# Altium footprint library TerminalBlock_WAGO.PcbLib: 170 footprints (part 11 of 11)
Each footprint in its own frame and in the unit in brackets; x right, y up, seen from the top. Pads: shape width x height; smd on the part's side, far side on the other; paste and mask are expansions set on the pad; w line width, h text height; cw(c..) or ccw(c..) is an arc to the next point about the centre after c.
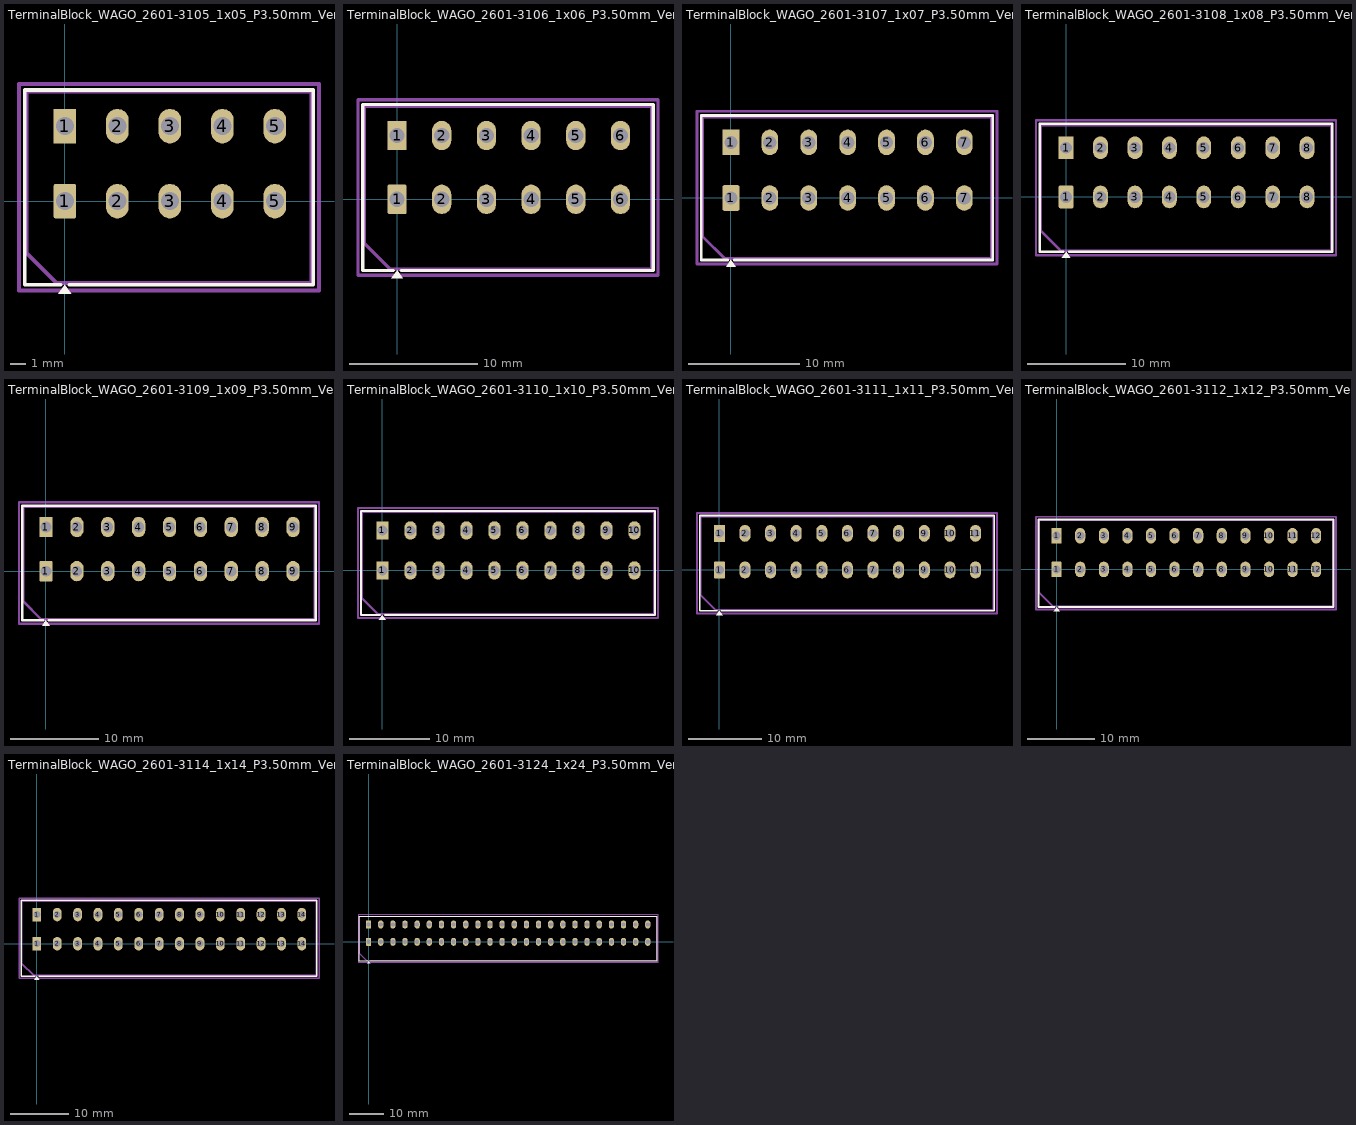
[diagram p10: the footprints below, top view; thin cyan lines are the x and y axes]

## TerminalBlock_WAGO_2601-3105_1x05_P3.50mm_Vertical [mm]
pads (10):
  rrect17% 1.5x2.3 hole 1.2: 1(0,0)
  rect 1.5x2.3 hole 1.2: 1(0,5)
  rrect100% 1.5x2.3 hole 1.2: 2(3.5,0) 2(3.5,5) 3(7,0) 3(7,5) 4(10.5,0) 4(10.5,5) 5(14,0) 5(14,5)
F.SilkS:
  region: 0.44,-6.18 -0.44,-6.18 0,-5.57
  lines w0.254: -0.3,-5.57 -2.68,-5.57 -2.68,7.42 16.56,7.42 16.56,-5.57 0.3,-5.57
F.Fab:
  lines w0.254: -2.56,-3.45 -2.56,7.3 16.44,7.3 16.44,-5.45 -0.56,-5.45 -2.56,-3.45
  text "'.Designator'" at 2.893,0.085 h1
F.CrtYd:
  lines w0.254: -3.06,-5.95 -3.06,7.8 16.94,7.8 16.94,-5.95 -3.06,-5.95

## TerminalBlock_WAGO_2601-3106_1x06_P3.50mm_Vertical [mm]
pads (12):
  rrect17% 1.5x2.3 hole 1.2: 1(0,0)
  rect 1.5x2.3 hole 1.2: 1(0,5)
  rrect100% 1.5x2.3 hole 1.2: 2(3.5,0) 2(3.5,5) 3(7,0) 3(7,5) 4(10.5,0) 4(10.5,5) 5(14,0) 5(14,5) 6(17.5,0) 6(17.5,5)
F.SilkS:
  region: 0.44,-6.18 -0.44,-6.18 0,-5.57
  lines w0.254: -0.3,-5.57 -2.68,-5.57 -2.68,7.42 20.06,7.42 20.06,-5.57 0.3,-5.57
F.Fab:
  lines w0.254: -2.56,-3.45 -2.56,7.3 19.94,7.3 19.94,-5.45 -0.56,-5.45 -2.56,-3.45
  text "'.Designator'" at 4.643,0.085 h1
F.CrtYd:
  lines w0.254: -3.06,-5.95 -3.06,7.8 20.44,7.8 20.44,-5.95 -3.06,-5.95

## TerminalBlock_WAGO_2601-3107_1x07_P3.50mm_Vertical [mm]
pads (14):
  rrect17% 1.5x2.3 hole 1.2: 1(0,0)
  rect 1.5x2.3 hole 1.2: 1(0,5)
  rrect100% 1.5x2.3 hole 1.2: 2(3.5,0) 2(3.5,5) 3(7,0) 3(7,5) 4(10.5,0) 4(10.5,5) 5(14,0) 5(14,5) 6(17.5,0) 6(17.5,5) 7(21,0) 7(21,5)
F.SilkS:
  region: 0.44,-6.18 -0.44,-6.18 0,-5.57
  lines w0.254: -0.3,-5.57 -2.68,-5.57 -2.68,7.42 23.56,7.42 23.56,-5.57 0.3,-5.57
F.Fab:
  lines w0.254: -2.56,-3.45 -2.56,7.3 23.44,7.3 23.44,-5.45 -0.56,-5.45 -2.56,-3.45
  text "'.Designator'" at 6.393,0.085 h1
F.CrtYd:
  lines w0.254: -3.06,-5.95 -3.06,7.8 23.94,7.8 23.94,-5.95 -3.06,-5.95

## TerminalBlock_WAGO_2601-3108_1x08_P3.50mm_Vertical [mm]
pads (16):
  rrect17% 1.5x2.3 hole 1.2: 1(0,0)
  rect 1.5x2.3 hole 1.2: 1(0,5)
  rrect100% 1.5x2.3 hole 1.2: 2(3.5,0) 2(3.5,5) 3(7,0) 3(7,5) 4(10.5,0) 4(10.5,5) 5(14,0) 5(14,5) 6(17.5,0) 6(17.5,5) 7(21,0) 7(21,5) 8(24.5,0) 8(24.5,5)
F.SilkS:
  region: 0.44,-6.18 -0.44,-6.18 0,-5.57
  lines w0.254: -0.3,-5.57 -2.68,-5.57 -2.68,7.42 27.06,7.42 27.06,-5.57 0.3,-5.57
F.Fab:
  lines w0.254: -2.56,-3.45 -2.56,7.3 26.94,7.3 26.94,-5.45 -0.56,-5.45 -2.56,-3.45
  text "'.Designator'" at 8.143,0.085 h1
F.CrtYd:
  lines w0.254: -3.06,-5.95 -3.06,7.8 27.44,7.8 27.44,-5.95 -3.06,-5.95

## TerminalBlock_WAGO_2601-3109_1x09_P3.50mm_Vertical [mm]
pads (18):
  rrect17% 1.5x2.3 hole 1.2: 1(0,0)
  rect 1.5x2.3 hole 1.2: 1(0,5)
  rrect100% 1.5x2.3 hole 1.2: 2(3.5,0) 2(3.5,5) 3(7,0) 3(7,5) 4(10.5,0) 4(10.5,5) 5(14,0) 5(14,5) 6(17.5,0) 6(17.5,5) 7(21,0) 7(21,5) 8(24.5,0) 8(24.5,5) 9(28,0) 9(28,5)
F.SilkS:
  region: 0.44,-6.18 -0.44,-6.18 0,-5.57
  lines w0.254: -0.3,-5.57 -2.68,-5.57 -2.68,7.42 30.56,7.42 30.56,-5.57 0.3,-5.57
F.Fab:
  lines w0.254: -2.56,-3.45 -2.56,7.3 30.44,7.3 30.44,-5.45 -0.56,-5.45 -2.56,-3.45
  text "'.Designator'" at 9.893,0.085 h1
F.CrtYd:
  lines w0.254: -3.06,-5.95 -3.06,7.8 30.94,7.8 30.94,-5.95 -3.06,-5.95

## TerminalBlock_WAGO_2601-3110_1x10_P3.50mm_Vertical [mm]
pads (20):
  rrect17% 1.5x2.3 hole 1.2: 1(0,0)
  rect 1.5x2.3 hole 1.2: 1(0,5)
  rrect100% 1.5x2.3 hole 1.2: 2(3.5,0) 2(3.5,5) 3(7,0) 3(7,5) 4(10.5,0) 4(10.5,5) 5(14,0) 5(14,5) 6(17.5,0) 6(17.5,5) 7(21,0) 7(21,5) 8(24.5,0) 8(24.5,5) 9(28,0) 9(28,5) 10(31.5,0) 10(31.5,5)
F.SilkS:
  region: 0.44,-6.18 -0.44,-6.18 0,-5.57
  lines w0.254: -0.3,-5.57 -2.68,-5.57 -2.68,7.42 34.06,7.42 34.06,-5.57 0.3,-5.57
F.Fab:
  lines w0.254: -2.56,-3.45 -2.56,7.3 33.94,7.3 33.94,-5.45 -0.56,-5.45 -2.56,-3.45
  text "'.Designator'" at 11.643,0.085 h1
F.CrtYd:
  lines w0.254: -3.06,-5.95 -3.06,7.8 34.44,7.8 34.44,-5.95 -3.06,-5.95

## TerminalBlock_WAGO_2601-3111_1x11_P3.50mm_Vertical [mm]
pads (22):
  rrect17% 1.5x2.3 hole 1.2: 1(0,0)
  rect 1.5x2.3 hole 1.2: 1(0,5)
  rrect100% 1.5x2.3 hole 1.2: 2(3.5,0) 2(3.5,5) 3(7,0) 3(7,5) 4(10.5,0) 4(10.5,5) 5(14,0) 5(14,5) 6(17.5,0) 6(17.5,5) 7(21,0) 7(21,5) 8(24.5,0) 8(24.5,5) 9(28,0) 9(28,5) 10(31.5,0) 10(31.5,5) 11(35,0) 11(35,5)
F.SilkS:
  region: 0.44,-6.18 -0.44,-6.18 0,-5.57
  lines w0.254: -0.3,-5.57 -2.68,-5.57 -2.68,7.42 37.56,7.42 37.56,-5.57 0.3,-5.57
F.Fab:
  lines w0.254: -2.56,-3.45 -2.56,7.3 37.44,7.3 37.44,-5.45 -0.56,-5.45 -2.56,-3.45
  text "'.Designator'" at 13.393,0.085 h1
F.CrtYd:
  lines w0.254: -3.06,-5.95 -3.06,7.8 37.94,7.8 37.94,-5.95 -3.06,-5.95

## TerminalBlock_WAGO_2601-3112_1x12_P3.50mm_Vertical [mm]
pads (24):
  rrect17% 1.5x2.3 hole 1.2: 1(0,0)
  rect 1.5x2.3 hole 1.2: 1(0,5)
  rrect100% 1.5x2.3 hole 1.2: 2(3.5,0) 2(3.5,5) 3(7,0) 3(7,5) 4(10.5,0) 4(10.5,5) 5(14,0) 5(14,5) 6(17.5,0) 6(17.5,5) 7(21,0) 7(21,5) 8(24.5,0) 8(24.5,5) 9(28,0) 9(28,5) 10(31.5,0) 10(31.5,5) 11(35,0) 11(35,5) 12(38.5,0) 12(38.5,5)
F.SilkS:
  region: 0.44,-6.18 -0.44,-6.18 0,-5.57
  lines w0.254: -0.3,-5.57 -2.68,-5.57 -2.68,7.42 41.06,7.42 41.06,-5.57 0.3,-5.57
F.Fab:
  lines w0.254: -2.56,-3.45 -2.56,7.3 40.94,7.3 40.94,-5.45 -0.56,-5.45 -2.56,-3.45
  text "'.Designator'" at 15.143,0.085 h1
F.CrtYd:
  lines w0.254: -3.06,-5.95 -3.06,7.8 41.44,7.8 41.44,-5.95 -3.06,-5.95

## TerminalBlock_WAGO_2601-3114_1x14_P3.50mm_Vertical [mm]
pads (28):
  rrect17% 1.5x2.3 hole 1.2: 1(0,0)
  rect 1.5x2.3 hole 1.2: 1(0,5)
  rrect100% 1.5x2.3 hole 1.2: 2(3.5,0) 2(3.5,5) 3(7,0) 3(7,5) 4(10.5,0) 4(10.5,5) 5(14,0) 5(14,5) 6(17.5,0) 6(17.5,5) 7(21,0) 7(21,5) 8(24.5,0) 8(24.5,5) 9(28,0) 9(28,5) 10(31.5,0) 10(31.5,5) 11(35,0) 11(35,5) 12(38.5,0) 12(38.5,5) 13(42,0) 13(42,5) 14(45.5,0) 14(45.5,5)
F.SilkS:
  region: 0.44,-6.18 -0.44,-6.18 0,-5.57
  lines w0.254: -0.3,-5.57 -2.68,-5.57 -2.68,7.42 48.06,7.42 48.06,-5.57 0.3,-5.57
F.Fab:
  lines w0.254: -2.56,-3.45 -2.56,7.3 47.94,7.3 47.94,-5.45 -0.56,-5.45 -2.56,-3.45
  text "'.Designator'" at 18.643,0.085 h1
F.CrtYd:
  lines w0.254: -3.06,-5.95 -3.06,7.8 48.44,7.8 48.44,-5.95 -3.06,-5.95

## TerminalBlock_WAGO_2601-3124_1x24_P3.50mm_Vertical [mm]
pads (48):
  rrect17% 1.5x2.3 hole 1.2: 1(0,0)
  rect 1.5x2.3 hole 1.2: 1(0,5)
  rrect100% 1.5x2.3 hole 1.2: 2(3.5,0) 2(3.5,5) 3(7,0) 3(7,5) 4(10.5,0) 4(10.5,5) 5(14,0) 5(14,5) 6(17.5,0) 6(17.5,5) 7(21,0) 7(21,5) 8(24.5,0) 8(24.5,5) 9(28,0) 9(28,5) 10(31.5,0) 10(31.5,5) 11(35,0) 11(35,5) 12(38.5,0) 12(38.5,5) 13(42,0) 13(42,5) 14(45.5,0) 14(45.5,5) 15(49,0) 15(49,5) 16(52.5,0) 16(52.5,5) 17(56,0) 17(56,5) 18(59.5,0) 18(59.5,5) 19(63,0) 19(63,5) 20(66.5,0) 20(66.5,5) 21(70,0) 21(70,5) 22(73.5,0) 22(73.5,5) 23(77,0) 23(77,5) 24(80.5,0) 24(80.5,5)
F.SilkS:
  region: 0.44,-6.18 -0.44,-6.18 0,-5.57
  lines w0.254: -0.3,-5.57 -2.68,-5.57 -2.68,7.42 83.06,7.42 83.06,-5.57 0.3,-5.57
F.Fab:
  lines w0.254: -2.56,-3.45 -2.56,7.3 82.94,7.3 82.94,-5.45 -0.56,-5.45 -2.56,-3.45
  text "'.Designator'" at 36.143,0.085 h1
F.CrtYd:
  lines w0.254: -3.06,-5.95 -3.06,7.8 83.44,7.8 83.44,-5.95 -3.06,-5.95